# Altium footprint library CONECTER.PcbLib: 145 footprints (part 8 of 10)
Each footprint in its own frame and in the unit in brackets; x right, y up, seen from the top. Pads: shape width x height; smd on the part's side, far side on the other; paste and mask are expansions set on the pad; w line width, h text height; cw(c..) or ccw(c..) is an arc to the next point about the centre after c.
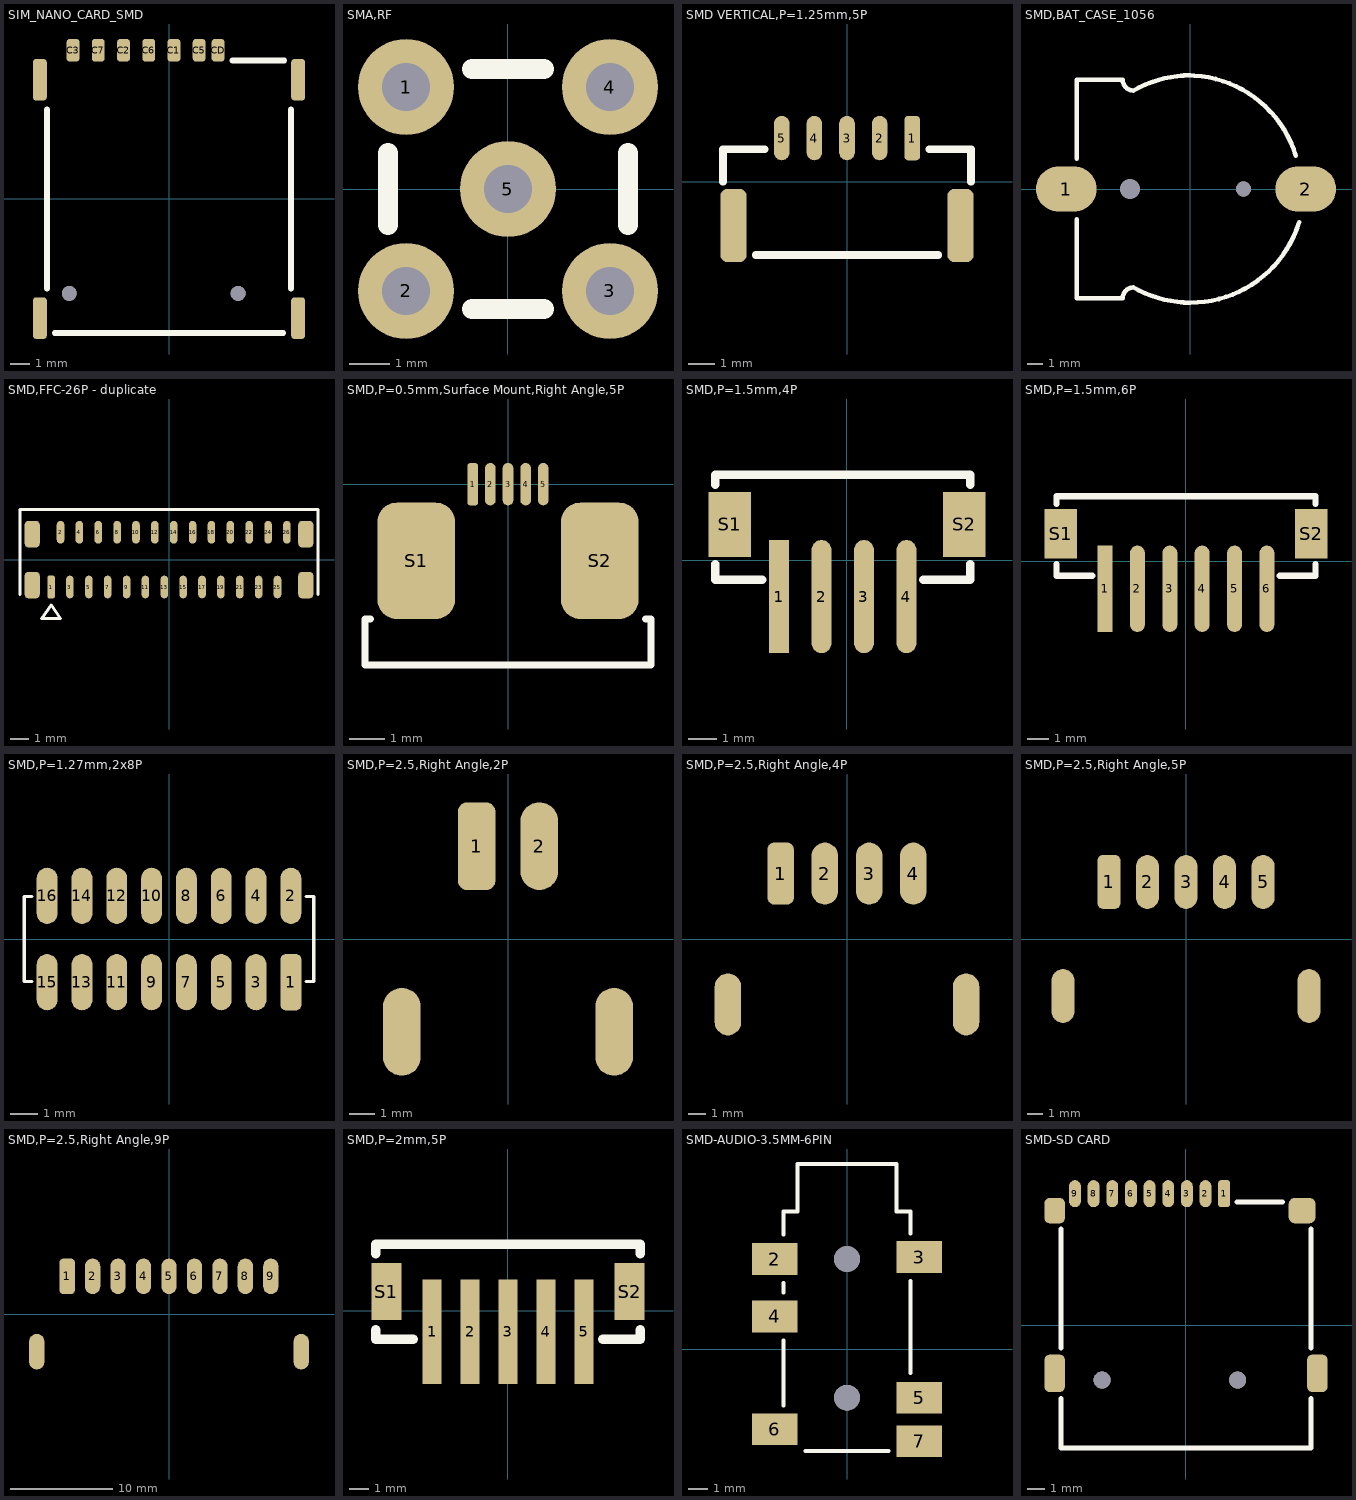
[diagram p7: the footprints below, top view; thin cyan lines are the x and y axes]

## SIM_NANO_CARD_SMD [mm]
pads (13):
  rrect50% 0.65x1.14 smd: C1(0.25,7.48) C2(-2.29,7.48) C3(-4.83,7.48) C5(1.52,7.48) C6(-1.02,7.48) C7(-3.56,7.48) CD(2.47,7.48)
  rrect50% 0.7x2.1 smd: ""(-6.5,-6) ""(-6.5,6) ""(6.5,-6) ""(6.5,6)
  round 0.75 hole 0.75: ""(-5.02,-4.75) ""(3.48,-4.75)
Top Overlay:
  lines w0.3: -6.15,-4.5 -6.15,4.5 ; -5.75,-6.75 5.75,-6.75 ; 3.2,6.97 5.8,6.97 ; 6.15,-4.5 6.15,4.5
3D body "CMNSM661004[1].stp": height 1.32, standoff -0.4, extent -6.545,-6.75 6.545,7.75

## SMA,RF [mm]
pads (5):
  round 2.4 hole 1.2 mask+0.2: 1(-2.55,2.55) 2(-2.55,-2.55) 3(2.55,-2.55) 4(2.55,2.55) 5(0,0)
Top Overlay:
  lines w0.5: -3,-0.9 -3,0.9 ; -0.9,-3 0.9,-3 ; -0.9,3 0.9,3 ; 3,-0.9 3,0.9
3D body "HJ-Tech-HJ-SMA175.STEP": height 6.27, standoff -3.3, extent -3.175,-3 3.175,14.2

## SMD VERTICAL,P=1.25mm,5P [mm]
pads (7):
  rrect50% 0.6x1.7 smd: 1(2.5,1.675)
  oval 0.6x1.7 smd: 2(1.25,1.675) 3(0,1.675) 4(-1.25,1.675) 5(-2.5,1.675)
  rrect50% 1x2.8 smd: ""(-4.35,-1.675) ""(4.35,-1.675)
Top Overlay:
  lines w0.3: -4.75,0 -4.75,1.25 -3.15,1.25 ; -3.5,-2.8 3.5,-2.8 ; 3.15,1.25 4.75,1.25 4.75,0
3D body "BM05B-GHS-TBT.STEP": height 4.25, standoff 0.05, extent -4.75,-2.825 4.75,2.125

## SMD,BAT_CASE_1056 [mm]
height 3.99
pads (4):
  oval 4x3 smd mask+0.15: 1(-8.18,0) 2(7.61,0)
  round 1.3 hole 1.3 unplated: ""(-3.98,0)
  round 1 hole 1 unplated: ""(3.51,0)
Top Overlay:
  lines w0.3: -7.5,-7.2 -7.5,-2 ; -7.5,2 -7.5,7.2 ; -7.41,-7.2 -4.46,-7.2 cw(c-3.753,-7.203) -3.75,-6.495 ccw(c0,0) 0,-7.5 ccw(c0,0) 7.172,-2.193 ; -7.41,7.2 -4.46,7.2 ccw(c-3.753,7.203) -3.75,6.495 cw(c0,0) 0,7.5 ; -0.21,7.5 cw(c-0.21,0) 6.962,2.193
3D body "1056--3DModel-STEP-630548.STEP": height 4.28, standoff -0.88, extent -9.658,-7.561 9.142,7.577

## SMD,FFC-26P - duplicate [mm]
pads (30):
  rrect50% 0.4x1.2 smd paste+0 mask+0.076: 1(-6.25,-1.45)
  oval 0.4x1.2 smd paste+0 mask+0.076: 2(-5.75,1.45) 3(-5.25,-1.45) 4(-4.75,1.45) 5(-4.25,-1.45) 6(-3.75,1.45) 7(-3.25,-1.45) 8(-2.75,1.45) 9(-2.25,-1.45) 10(-1.75,1.45) 11(-1.25,-1.45) 12(-0.75,1.45) 13(-0.25,-1.45) 14(0.25,1.45) 15(0.75,-1.45) 16(1.25,1.45) 17(1.75,-1.45) 18(2.25,1.45) 19(2.75,-1.45) 20(3.25,1.45) 21(3.75,-1.45) 22(4.25,1.45) 23(4.75,-1.45) 24(5.25,1.45) 25(5.75,-1.45) 26(6.25,1.45)
  rrect50% 0.8x1.4 smd paste+0 mask+0.076: ""(-7.25,-1.35) ""(-7.25,1.35) ""(7.25,-1.35) ""(7.25,1.35)
Top Overlay:
  lines w0.15: -6.75,-3.112 -5.75,-3.112 ; 7.9,-1.85 7.9,2.65 ; -7.9,-1.85 ccw(c-7.9,-1.85) -7.9,-1.85 ; -7.9,-1.85 -7.9,2.65 7.9,2.65 ; 7.9,2.65 ccw(c7.9,2.65) 7.9,2.65
  lines w0.152: -6.75,-3.112 -6.25,-2.413 -5.75,-3.112
3D:
  lines w0.127: -7.9,2.65 7.9,2.65
3D body "5019512630.stp": height 4.54, standoff -0.06, extent -7.9,-1.85 7.9,2.284

## SMD,P=0.5mm,Surface Mount,Right Angle,5P [mm]
pads (7):
  rrect50% 0.3x1.2 smd mask+0.1: 1(-1,0)
  oval 0.3x1.2 smd mask+0.1: 2(-0.5,0) 3(0,0) 4(0.5,0) 5(1,0)
  rrect50% 2.2x3.3 smd mask+0.15: S1(-2.6,-2.17) S2(2.6,-2.17)
Top Overlay:
  lines w0.2: -3.9,-3.82 -4.05,-3.82 -4.05,-5.12 4.05,-5.12 4.05,-3.82 3.9,-3.82
3D body "1734592-5.stp": height 2.1, standoff 0.05, extent -3.965,-5.13 3.965,-0.02

## SMD,P=1.5mm,4P [mm]
pads (6):
  rect 0.7x4 smd: 1(-2.4,-1.275)
  oval 0.7x4 smd: 2(-0.9,-1.275) 3(0.6,-1.275) 4(2.1,-1.275)
  rect 1.5x2.3 smd: S1(-4.15,1.275) S2(4.15,1.275)
Top Overlay:
  lines w0.3: -4.65,-0.125 -4.65,-0.675 -3,-0.675 ; -4.65,2.675 -4.65,3.025 4.35,3.025 4.35,2.675 ; 2.7,-0.675 4.35,-0.675 4.35,-0.125
3D body "B4B-ZR-SM4-TFT.STEP": height 5, standoff 0, extent -4.65,-2.175 4.35,3.025

## SMD,P=1.5mm,6P [mm]
pads (8):
  rect 0.7x4 smd: 1(-3.75,-1.275)
  oval 0.7x4 smd: 2(-2.25,-1.275) 3(-0.75,-1.275) 4(0.75,-1.275) 5(2.25,-1.275) 6(3.75,-1.275)
  rect 1.5x2.3 smd: S1(-5.8,1.275) S2(5.8,1.275)
Top Overlay:
  lines w0.3: -6,-0.125 -6,-0.675 -4.35,-0.675 ; -6,2.675 -6,3.025 6,3.025 6,2.675 ; 4.35,-0.675 6,-0.675 6,-0.125
3D body "B6B-ZR-SM4-TF.STEP": height 5, standoff 0, extent -6,-2.175 6,3.025

## SMD,P=1.27mm,2x8P [mm]
pads (16):
  rrect50% 0.76x2.05 smd: 1(4.445,-1.575)
  oval 0.76x2.05 smd: 2(4.445,1.575) 3(3.175,-1.575) 4(3.175,1.575) 5(1.905,-1.575) 6(1.905,1.575) 7(0.635,-1.575) 8(0.635,1.575) 9(-0.635,-1.575) 10(-0.635,1.575) 11(-1.905,-1.575) 12(-1.905,1.575) 13(-3.175,-1.575) 14(-3.175,1.575) 15(-4.445,-1.575) 16(-4.445,1.575)
Top Overlay:
  lines w0.127: -5,-1.55 -5.28,-1.55 -5.28,1.55 -5,1.55 ; 5,-1.55 5.28,-1.55 5.28,1.55 5,1.55
3D body "62301621021.stp": height 4.6, standoff -0.05, extent -5.28,-2.3 5.28,2.3

## SMD,P=2.5,Right Angle,2P [mm]
pads (4):
  rrect50% 1.5x3.5 smd: 1(-1.25,3.7)
  oval 1.5x3.5 smd: 2(1.25,3.7) ""(-4.23,-3.7) ""(4.23,-3.7)
3D body "JST - XH - SMD (R) - 2Pin - 2.54mm.stp": height 5.92, standoff 0, extent -5.067,-4.906 5.067,5

## SMD,P=2.5,Right Angle,4P [mm]
pads (6):
  rrect50% 1.5x3.5 smd: 1(-3.75,3.7)
  oval 1.5x3.5 smd: 2(-1.25,3.7) 3(1.25,3.7) 4(3.75,3.7) ""(-6.73,-3.7) ""(6.73,-3.7)
3D body "JST - XH - SMD (R) - 4Pin - 2.54mm.stp": height 5.92, standoff 0, extent -7.607,-4.906 7.607,5

## SMD,P=2.5,Right Angle,5P [mm]
pads (7):
  rrect50% 1.5x3.5 smd: 1(-5,3.7)
  oval 1.5x3.5 smd: 2(-2.5,3.7) 3(0,3.7) 4(2.5,3.7) 5(5,3.7) ""(-7.98,-3.7) ""(7.98,-3.7)
3D body "JST - XH - SMD (R) - 5Pin - 2.54mm.stp": height 5.92, standoff 0, extent -8.877,-4.906 8.877,5

## SMD,P=2.5,Right Angle,9P [mm]
pads (11):
  rrect50% 1.5x3.5 smd: 1(-10,3.7)
  oval 1.5x3.5 smd: 2(-7.5,3.7) 3(-5,3.7) 4(-2.5,3.7) 5(0,3.7) 6(2.5,3.7) 7(5,3.7) 8(7.5,3.7) 9(10,3.7) ""(-12.98,-3.7) ""(12.98,-3.7)
3D body "JST - XH - SMD (R) - 9Pin - 2.54mm.stp": height 5.92, standoff 0, extent -13.957,-4.906 13.957,5

## SMD,P=2mm,5P [mm]
pads (7):
  rect 1x5.5 smd: 1(-4,-1.1) 2(-2,-1.1) 3(0,-1.1) 4(2,-1.1) 5(4,-1.1)
  rect 1.6x3 smd: S1(-6.4,1) S2(6.4,1)
Top Overlay:
  lines w0.5: -6.975,-1 -6.975,-1.5 -5,-1.5 ; -6.975,3 -6.975,3.5 6.975,3.5 6.975,3 ; 5,-1.5 6.975,-1.5 6.975,-1
3D body "B5B-PH-SM4-TBT (LF)(SN).STEP": height 6.75, standoff 0, extent -6.975,-3.5 6.975,3.5

## SMD-AUDIO-3.5MM-6PIN [mm]
pads (8):
  rect 2.3x1.6 smd mask+0.15: 2(-3.65,4.55) 3(3.65,4.65) 4(-3.65,1.65) 5(3.65,-2.45) 6(-3.65,-4.05) 7(3.65,-4.65)
  round 1.3 hole 1.3: ""(0,-2.45) ""(0,4.55)
Top Overlay:
  lines w0.2: -3.2,-2.85 -3.2,0.45 ; -3.2,2.85 -3.2,3.35 ; -3.2,5.8 -3.2,6.95 -2.5,6.95 -2.5,9.35 2.5,9.35 2.5,6.95 3.2,6.95 3.2,5.85 ; -2.1,-5.15 2.1,-5.15 ; 3.2,-1.2 3.2,3.45
3D body "PJ311D_WPos.STEP": height 4.8, standoff -0.7, extent -4.35,-5.45 4.15,8.85

## SMD-SD CARD [mm]
pads (15):
  rrect50% 0.7x1.6 smd mask+0.1: 1(2.25,7.75)
  oval 0.7x1.6 smd mask+0.1: 2(1.15,7.75) 3(0.05,7.75) 4(-1.05,7.75) 5(-2.15,7.75) 6(-3.25,7.75) 7(-4.35,7.75) 8(-5.45,7.75) 9(-6.55,7.75)
  rrect50% 1.2x2.2 smd mask+0.1: ""(-7.75,-2.85) ""(7.75,-2.85)
  rrect50% 1.2x1.5 smd mask+0.1: ""(-7.75,6.75)
  round 1 hole 1: ""(-4.95,-3.25) ""(3.05,-3.25)
  rrect50% 1.6x1.5 smd mask+0.1: ""(6.85,6.75)
Top Overlay:
  lines w0.3: -7.375,-4.35 -7.375,-7.25 7.375,-7.25 7.375,-4.35 ; -7.375,-1.35 -7.375,5.65 ; 3,7.25 5.7,7.25 ; 7.375,-1.35 7.375,5.65
3D body "MICRO SD CARD SOCKET.step": height 1.84, standoff -0.6, extent -7.976,-9.831 8.024,8.069